# Altium footprint library PcbLib1.PcbLib: 98 footprints (part 4 of 7)
Each footprint in its own frame and in the unit in brackets; x right, y up, seen from the top. Pads: shape width x height; smd on the part's side, far side on the other; paste and mask are expansions set on the pad; w line width, h text height; cw(c..) or ccw(c..) is an arc to the next point about the centre after c.
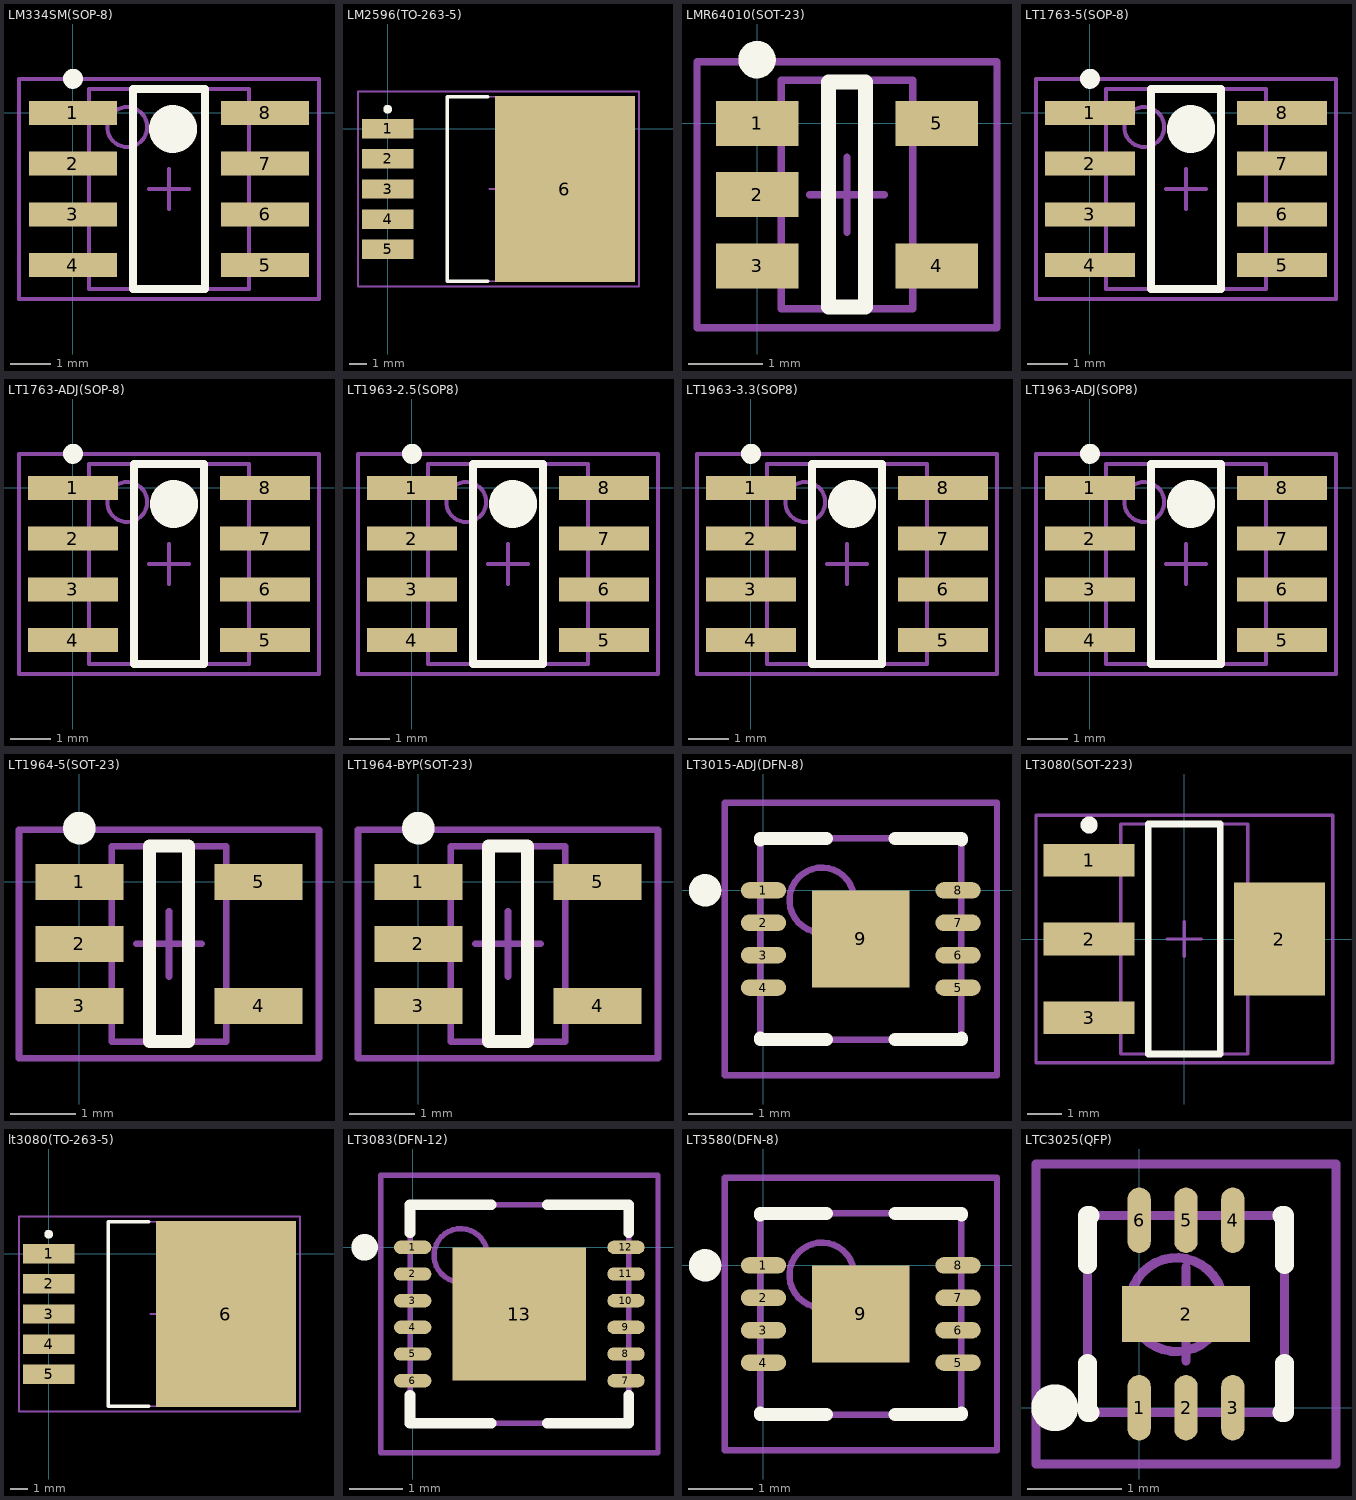
[diagram p3: the footprints below, top view; thin cyan lines are the x and y axes]

## LM334SM(SOP-8) [mm] "SOIC, 8-Leads, Body 5.0x4.0mm (max), Pitch 1.27mm, IPC Medium Density"
height 1.75
pads (8):
  rect 2.2x0.6 smd: 1(0,0) 2(0,-1.27) 3(0,-2.54) 4(0,-3.81) 5(4.8,-3.81) 6(4.8,-2.54) 7(4.8,-1.27) 8(4.8,0)
Top Overlay:
  circle w0.25: c0,0.85 r0.125
  circle w0.6: c2.5,-0.405 r0.3
  lines w0.2: 1.5,-4.405 1.5,0.595 3.3,0.595 3.3,-4.405 1.5,-4.405
Mechanical 13:
  circle w0.1: c1.355,-0.355 r0.5
  lines w0.1: 0.405,-4.405 0.405,0.595 4.395,0.595 4.395,-4.405 0.405,-4.405
Mechanical 15:
  lines w0.1: 1.9,-1.905 2.9,-1.905 ; 2.4,-2.405 2.4,-1.405 ; -1.35,-4.655 -1.35,0.845 6.15,0.845 6.15,-4.655 -1.35,-4.655
3D body: height 1.75, standoff 0.1, extent 0.405,-4.405 4.395,0.595

## LM2596(TO-263-5) [mm] "D2-PAK, 6-Pads, Body 8.9x10.4mm (max), IPC Medium Density"
height 4.65
pads (6):
  rect 2.9x1.1 smd: 1(0,0) 2(0,-1.7) 3(0,-3.4) 4(0,-5.1) 5(0,-6.8)
  rect 7.9x10.5 smd: 6(10,-3.4)
Top Overlay:
  circle w0.25: c0,1.1 r0.125
  lines w0.2: 5.65,-8.6 3.35,-8.6 3.35,1.8 5.65,1.8
Mechanical 13:
  lines w0.1: 3.35,-8.6 12.24,-8.6 12.24,1.8 3.35,1.8 3.35,-8.6
Mechanical 15:
  lines w0.1: 5.75,-3.4 6.75,-3.4 ; 6.25,-3.9 6.25,-2.9 ; -1.675,-8.9 14.175,-8.9 14.175,2.1 -1.675,2.1 -1.675,-8.9
3D body: height 4.65, standoff 0.76, extent 3.35,-8.6 12.24,1.8

## LMR64010(SOT-23) [mm] "SOT23, 5-Leads, Body 3.0x3.0mm (max), Pitch 0.95mm, IPC Medium Density"
height 1.45
pads (5):
  rect 1.1x0.6 smd: 1(0,0) 2(0,-0.95) 3(0,-1.9) 4(2.4,-1.9) 5(2.4,0)
Top Overlay:
  circle w0.25: c0,0.85 r0.125
  lines w0.2: 0.95,-2.45 1.45,-2.45 1.45,0.55 0.95,0.55 0.95,-2.45
Mechanical 13:
  lines w0.1: 0.325,-2.475 0.325,0.575 2.075,0.575 2.075,-2.475 0.325,-2.475
Mechanical 15:
  lines w0.1: 0.7,-0.95 1.7,-0.95 ; 1.2,-1.45 1.2,-0.45 ; -0.8,-2.725 -0.8,0.825 3.2,0.825 3.2,-2.725 -0.8,-2.725
3D body: height 1.45, standoff 0.1, extent 0.325,-2.475 2.075,0.575

## LT1763-5(SOP-8) [mm]
pads (8):
  rect 2.25x0.6 smd: 1(0,0) 2(0,-1.27) 3(0,-2.54) 4(0,-3.81) 5(4.8,-3.81) 6(4.8,-2.54) 7(4.8,-1.27) 8(4.8,0)
Top Overlay:
  circle w0.6: c2.525,-0.405 r0.3
  circle w0.25: c0,0.85 r0.125
  lines w0.2: 1.525,-4.405 3.275,-4.405 3.275,0.595 1.525,0.595 1.525,-4.405
Mechanical 13:
  circle w0.1: c1.355,-0.355 r0.5
  lines w0.1: 0.405,-4.405 4.395,-4.405 4.395,0.595 0.405,0.595 0.405,-4.405
Mechanical 15:
  lines w0.1: 1.9,-1.905 2.9,-1.905 ; 2.4,-2.405 2.4,-1.405 ; -1.35,-4.655 6.15,-4.655 6.15,0.845 -1.35,0.845 -1.35,-4.655
3D body: height 1.75, standoff 0.1, extent 0.405,-4.405 4.395,0.595

## LT1763-ADJ(SOP-8) [mm] "SOIC, 8-Leads, Body 5.0x4.0mm (max), Pitch 1.27mm, IPC Medium Density"
height 1.752
pads (8):
  rect 2.25x0.6 smd: 1(0,0) 2(0,-1.27) 3(0,-2.54) 4(0,-3.81) 5(4.8,-3.81) 6(4.8,-2.54) 7(4.8,-1.27) 8(4.8,0)
Top Overlay:
  circle w0.25: c0,0.85 r0.125
  circle w0.6: c2.525,-0.405 r0.3
  lines w0.2: 1.525,-4.405 1.525,0.595 3.275,0.595 3.275,-4.405 1.525,-4.405
Mechanical 13:
  circle w0.1: c1.355,-0.355 r0.5
  lines w0.1: 0.405,-4.405 0.405,0.595 4.395,0.595 4.395,-4.405 0.405,-4.405
Mechanical 15:
  lines w0.1: 1.9,-1.905 2.9,-1.905 ; 2.4,-2.405 2.4,-1.405 ; -1.35,-4.655 -1.35,0.845 6.15,0.845 6.15,-4.655 -1.35,-4.655
3D body: height 1.75, standoff 0.1, extent 0.405,-4.405 4.395,0.595

## LT1963-2.5(SOP8) [mm] "D2-PAK, 6-Pads, Body 9.4x10.5mm (max), IPC Medium Density"
height 4.572
pads (8):
  rect 2.25x0.6 smd: 1(0,0) 2(0,-1.27) 3(0,-2.54) 4(0,-3.81) 5(4.8,-3.81) 6(4.8,-2.54) 7(4.8,-1.27) 8(4.8,0)
Top Overlay:
  circle w0.25: c0,0.85 r0.125
  circle w0.6: c2.525,-0.405 r0.3
  lines w0.2: 1.525,-4.405 1.525,0.595 3.275,0.595 3.275,-4.405 1.525,-4.405
Mechanical 13:
  circle w0.1: c1.355,-0.355 r0.5
  lines w0.1: 0.405,-4.405 0.405,0.595 4.395,0.595 4.395,-4.405 0.405,-4.405
Mechanical 15:
  lines w0.1: 1.9,-1.905 2.9,-1.905 ; 2.4,-2.405 2.4,-1.405 ; -1.35,-4.655 -1.35,0.845 6.15,0.845 6.15,-4.655 -1.35,-4.655
3D body: height 1.75, standoff 0.1, extent 0.405,-4.405 4.395,0.595

## LT1963-3.3(SOP8) [mm] "D2-PAK, 6-Pads, Body 9.4x10.5mm (max), IPC Medium Density"
height 4.572
pads (8):
  rect 2.25x0.6 smd: 1(0,0) 2(0,-1.27) 3(0,-2.54) 4(0,-3.81) 5(4.8,-3.81) 6(4.8,-2.54) 7(4.8,-1.27) 8(4.8,0)
Top Overlay:
  circle w0.6: c2.525,-0.405 r0.3
  circle w0.25: c0,0.85 r0.125
  lines w0.2: 1.525,-4.405 3.275,-4.405 3.275,0.595 1.525,0.595 1.525,-4.405
Mechanical 13:
  circle w0.1: c1.355,-0.355 r0.5
  lines w0.1: 0.405,-4.405 4.395,-4.405 4.395,0.595 0.405,0.595 0.405,-4.405
Mechanical 15:
  lines w0.1: 1.9,-1.905 2.9,-1.905 ; 2.4,-2.405 2.4,-1.405 ; -1.35,-4.655 6.15,-4.655 6.15,0.845 -1.35,0.845 -1.35,-4.655
3D body: height 1.75, standoff 0.1, extent 0.405,-4.405 4.395,0.595

## LT1963-ADJ(SOP8) [mm] "D2-PAK, 6-Pads, Body 9.4x10.5mm (max), IPC Medium Density"
height 4.572
pads (8):
  rect 2.25x0.6 smd: 1(0,0) 2(0,-1.27) 3(0,-2.54) 4(0,-3.81) 5(4.8,-3.81) 6(4.8,-2.54) 7(4.8,-1.27) 8(4.8,0)
Top Overlay:
  circle w0.6: c2.525,-0.405 r0.3
  circle w0.25: c0,0.85 r0.125
  lines w0.2: 1.525,-4.405 3.275,-4.405 3.275,0.595 1.525,0.595 1.525,-4.405
Mechanical 13:
  circle w0.1: c1.355,-0.355 r0.5
  lines w0.1: 0.405,-4.405 4.395,-4.405 4.395,0.595 0.405,0.595 0.405,-4.405
Mechanical 15:
  lines w0.1: 1.9,-1.905 2.9,-1.905 ; 2.4,-2.405 2.4,-1.405 ; -1.35,-4.655 6.15,-4.655 6.15,0.845 -1.35,0.845 -1.35,-4.655
3D body: height 1.75, standoff 0.1, extent 0.405,-4.405 4.395,0.595

## LT1964-5(SOT-23) [mm]
pads (5):
  rect 1.35x0.55 smd: 1(0,0) 2(0,-0.95) 3(0,-1.9) 4(2.75,-1.9) 5(2.75,0)
Top Overlay:
  circle w0.25: c0,0.825 r0.125
  lines w0.2: 1.075,-2.45 1.675,-2.45 1.675,0.55 1.075,0.55 1.075,-2.45
Mechanical 13:
  lines w0.1: 0.5,-2.45 0.5,0.55 2.25,0.55 2.25,-2.45 0.5,-2.45
Mechanical 15:
  lines w0.1: 0.875,-0.95 1.875,-0.95 ; 1.375,-1.45 1.375,-0.45 ; -0.925,-2.7 -0.925,0.8 3.675,0.8 3.675,-2.7 -0.925,-2.7
3D body: height 1, standoff 0.01, extent 0.5,-2.45 2.25,0.55

## LT1964-BYP(SOT-23) [mm] "SOT23, 5-Leads, Body 3.0x3.8mm (max), Pitch 0.95mm, IPC Medium Density"
height 1
pads (5):
  rect 1.35x0.55 smd: 1(0,0) 2(0,-0.95) 3(0,-1.9) 4(2.75,-1.9) 5(2.75,0)
Top Overlay:
  circle w0.25: c0,0.825 r0.125
  lines w0.2: 1.075,-2.45 1.675,-2.45 1.675,0.55 1.075,0.55 1.075,-2.45
Mechanical 13:
  lines w0.1: 0.5,-2.45 0.5,0.55 2.25,0.55 2.25,-2.45 0.5,-2.45
Mechanical 15:
  lines w0.1: 0.875,-0.95 1.875,-0.95 ; 1.375,-1.45 1.375,-0.45 ; -0.925,-2.7 -0.925,0.8 3.675,0.8 3.675,-2.7 -0.925,-2.7
3D body: height 1, standoff 0.01, extent 0.5,-2.45 2.25,0.55

## LT3015-ADJ(DFN-8) [mm] "QFN, 8-Leads, Body 3.1x3.1mm (max), Pitch 0.50mm, IPC Medium Density"
height 0.8
pads (9):
  oval 0.7x0.25 smd: 1(0,0) 2(0,-0.5) 3(0,-1) 4(0,-1.5) 5(3,-1.5) 6(3,-1) 7(3,-0.5) 8(3,0)
  rect 1.5x1.5 smd: 9(1.5,-0.75)
Top Overlay:
  circle w0.25: c-0.9,0 r0.125
  lines w0.2: -0.05,-2.275 -0.05,-2.3 0.975,-2.3 ; -0.05,0.775 -0.05,0.8 0.975,0.8 ; 2.025,-2.3 3.05,-2.3 3.05,-2.275 ; 2.025,0.8 3.05,0.8 3.05,0.775
Mechanical 13:
  circle w0.1: c0.9,-0.15 r0.5
  lines w0.1: -0.05,-2.3 -0.05,0.8 3.05,0.8 3.05,-2.3 -0.05,-2.3
Mechanical 15:
  lines w0.1: 1,-0.75 2,-0.75 ; 1.5,-1.25 1.5,-0.25 ; -0.6,-2.85 -0.6,1.35 3.6,1.35 3.6,-2.85 -0.6,-2.85
3D body: height 0.8, standoff 0.01, extent -0.05,-2.3 3.05,0.8

## LT3080(SOT-223) [mm] "SOT223, 4-Leads, Body 6.7x7.3mm (max), Pitch 2.30mm, IPC Medium Density"
height 1.8
pads (4):
  rect 2.65x0.95 smd: 1(-2.775,2.3) 2(-2.775,0) 3(-2.775,-2.3)
  rect 2.65x3.3 smd: 2(2.775,0)
Top Overlay:
  circle w0.25: c-2.775,3.325 r0.125
  lines w0.2: -1.05,-3.355 1.05,-3.355 1.05,3.355 -1.05,3.355 -1.05,-3.355
Mechanical 13:
  lines w0.1: -1.855,-3.355 1.855,-3.355 1.855,3.355 -1.855,3.355 -1.855,-3.355
Mechanical 15:
  lines w0.1: -0.5,0 0.5,0 ; 0,-0.5 0,0.5 ; -4.325,-3.605 4.325,-3.605 4.325,3.605 -4.325,3.605 -4.325,-3.605
3D body: height 1.8, standoff 0.36, extent -1.855,-3.355 1.855,3.355

## lt3080(TO-263-5) [mm] "D2-PAK, 6-Pads, Body 9.4x10.5mm (max), IPC Medium Density"
height 4.572
pads (6):
  rect 2.9x1.1 smd: 1(0,0) 2(0,-1.7) 3(0,-3.4) 4(0,-5.1) 5(0,-6.8)
  rect 7.9x10.5 smd: 6(10,-3.4)
Top Overlay:
  circle w0.25: c0,1.1 r0.125
  lines w0.2: 5.65,-8.6 3.35,-8.6 3.35,1.8 5.65,1.8
Mechanical 13:
  lines w0.1: 3.35,-8.6 3.35,1.8 12.24,1.8 12.24,-8.6 3.35,-8.6
Mechanical 15:
  lines w0.1: 5.75,-3.4 6.75,-3.4 ; 6.25,-3.9 6.25,-2.9 ; -1.675,-8.9 -1.675,2.1 14.175,2.1 14.175,-8.9 -1.675,-8.9
3D body: height 4.65, standoff 0.76, extent 3.35,-8.6 12.24,1.8

## LT3083(DFN-12) [mm] "QFN, 12-Leads, Body 4.1x4.1mm (max), Pitch 0.50mm, IPC Medium Density"
height 0.8
pads (13):
  oval 0.7x0.25 smd: 1(0,0) 2(0,-0.5) 3(0,-1) 4(0,-1.5) 5(0,-2) 6(0,-2.5) 7(4,-2.5) 8(4,-2) 9(4,-1.5) 10(4,-1) 11(4,-0.5) 12(4,0)
  rect 2.5x2.5 smd: 13(2,-1.25)
Top Overlay:
  circle w0.25: c-0.9,0 r0.125
  lines w0.2: -0.05,-2.775 -0.05,-3.3 1.475,-3.3 ; -0.05,0.275 -0.05,0.8 1.475,0.8 ; 2.525,-3.3 4.05,-3.3 4.05,-2.775 ; 2.525,0.8 4.05,0.8 4.05,0.275
Mechanical 13:
  circle w0.1: c0.9,-0.15 r0.5
  lines w0.1: -0.05,-3.3 4.05,-3.3 4.05,0.8 -0.05,0.8 -0.05,-3.3
Mechanical 15:
  lines w0.1: 1.5,-1.25 2.5,-1.25 ; 2,-1.75 2,-0.75 ; -0.6,-3.85 4.6,-3.85 4.6,1.35 -0.6,1.35 -0.6,-3.85
3D body: height 0.8, standoff 0.01, extent -0.05,-3.3 4.05,0.8

## LT3580(DFN-8) [mm] "QFN, 8-Leads, Body 3.1x3.1mm (max), Pitch 0.50mm, IPC Medium Density"
height 0.8
pads (9):
  oval 0.7x0.25 smd: 1(0,0) 2(0,-0.5) 3(0,-1) 4(0,-1.5) 5(3,-1.5) 6(3,-1) 7(3,-0.5) 8(3,0)
  rect 1.5x1.5 smd: 9(1.5,-0.75)
Top Overlay:
  circle w0.25: c-0.9,0 r0.125
  lines w0.2: -0.05,-2.275 -0.05,-2.3 0.975,-2.3 ; -0.05,0.775 -0.05,0.8 0.975,0.8 ; 2.025,-2.3 3.05,-2.3 3.05,-2.275 ; 2.025,0.8 3.05,0.8 3.05,0.775
Mechanical 13:
  circle w0.1: c0.9,-0.15 r0.5
  lines w0.1: -0.05,-2.3 3.05,-2.3 3.05,0.8 -0.05,0.8 -0.05,-2.3
Mechanical 15:
  lines w0.1: 1,-0.75 2,-0.75 ; 1.5,-1.25 1.5,-0.25 ; -0.6,-2.85 3.6,-2.85 3.6,1.35 -0.6,1.35 -0.6,-2.85
3D body: height 0.8, standoff 0.01, extent -0.05,-2.3 3.05,0.8

## LTC3025(QFP) [mm] "QFN, 6-Leads, Body 2.1x2.1mm (max), Pitch 0.50mm, IPC Medium Density"
height 0.8
pads (7):
  oval 0.25x0.7 smd: 1(0,0) 2(0.5,0) 3(1,0) 4(1,2) 5(0.5,2) 6(0,2)
  rect 1.37x0.6 smd: 2(0.5,1)
Top Overlay:
  circle w0.25: c-0.9,0 r0.125
  lines w0.2: -0.55,0.475 -0.55,-0.05 -0.525,-0.05 ; -0.55,1.525 -0.55,2.05 -0.525,2.05 ; 1.525,-0.05 1.55,-0.05 1.55,0.475 ; 1.525,2.05 1.55,2.05 1.55,1.525
Mechanical 13:
  circle w0.1: c0.4,1.1 r0.5
  lines w0.1: -0.55,-0.05 -0.55,2.05 1.55,2.05 1.55,-0.05 -0.55,-0.05
Mechanical 15:
  lines w0.1: 0,1 1,1 ; 0.5,0.5 0.5,1.5 ; -1.1,-0.6 -1.1,2.6 2.1,2.6 2.1,-0.6 -1.1,-0.6
3D body: height 0.8, standoff 0.05, extent -0.55,-0.05 1.55,2.05